# Altium integrated library Resistor.IntLib: 9 symbols
Pins are listed as number, name and electrical type; pins without a type are passive.

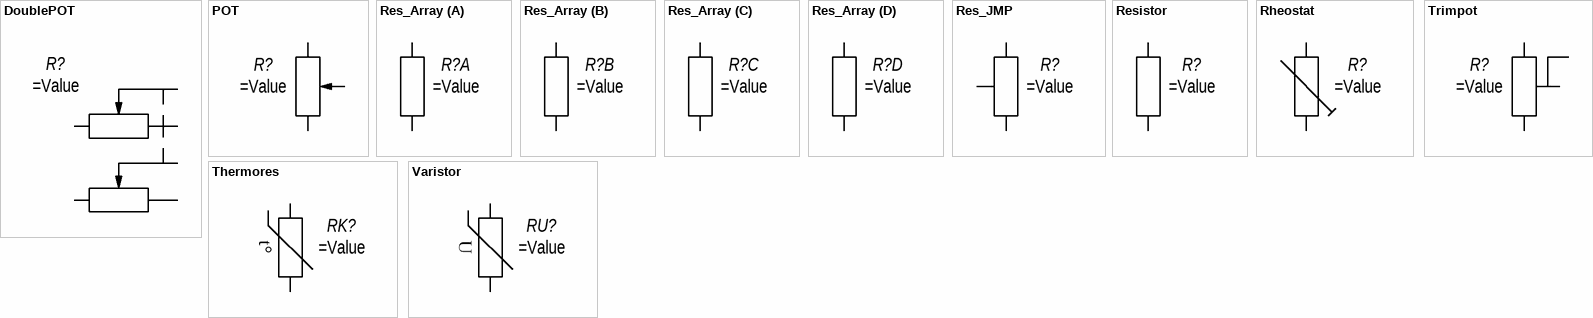
[diagram p0: symbols DoublePOT to Varistor]

## DoublePOT
designator R?  (value not drawn)
HelpURL: *; Manufacturer: *; Value: =Value
pins: 1, 2, 3, 4, 5, 6
1 alternate drawing of the same symbol

## POT
designator R?  (value not drawn)
HelpURL: *; Manufacturer: *; Value: =Value
pins: 1, 2, 3

## Res_Array
designator R?  (value not drawn)
HelpURL: *; Manufacturer: *; Value: =Value
part A pins: 1, 2
part B pins: 3, 4
part C pins: 5, 6
part D pins: 7, 8

## Res_JMP
designator R?  (value not drawn)
Jumper two way on resistor; HelpURL: *; Manufacturer: *; Value: =Value
footprint RES0603JMP-RS (Resistor Jumper, 0603 Package, Reflow Soldering)
pins: 1, 2, 3
9 alternate drawings of the same symbol

## Resistor
designator R?  (value not drawn)
HelpURL: *; Manufacturer: *; Value: =Value
footprint RES0805WS (Resistor 0805 Wave Soldering)
footprint RES0805RS (Resistor 0805 Reflow Soldering)
footprint RES0603RS (Resistor 0603 Reflow Soldering)
footprint RES0603WS (Resistor 0603 Wave Soldering)
pins: 1, 2
9 alternate drawings of the same symbol

## Rheostat
designator R?  (value not drawn)
HelpURL: *; Manufacturer: *; Value: =Value
pins: 1, 2
1 alternate drawing of the same symbol

## Thermores
designator RK?  (value not drawn)
HelpURL: *; Manufacturer: *; Value: =Value
pins: 1, 2
3 alternate drawings of the same symbol
text: t°

## Trimpot
designator R?  (value not drawn)
HelpURL: *; Manufacturer: *; Value: =Value
pins: 1, 2, 3
1 alternate drawing of the same symbol

## Varistor
designator RU?  (value not drawn)
HelpURL: *; Manufacturer: *; Value: =Value
pins: 1, 2
1 alternate drawing of the same symbol
text: U